# EAGLE library part 74LVC1G175 (library Public)
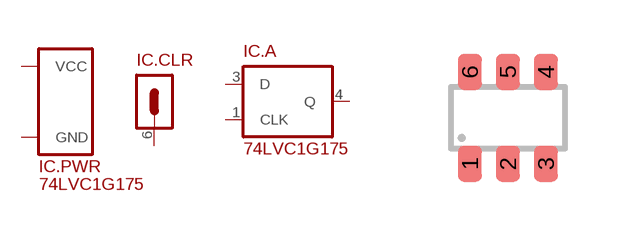
[diagram p175: symbol with the pads of SOT23-6; footprint SOT23-6]

Designator prefix IC; gates .PWR=SUPPLY_VCC/GND .CLR=HEADER_1 .A=D_FLIPFLOP

## 74LVC1G175  [SOT23-6]
1  .A:CLK
2  .PWR:GND
3  .A:D
4  .A:Q
5  .PWR:VCC
6  .CLR:PIN1

## Footprint SOT23-6 (pad centres in mm)
SOT23-6 SOT26 SC59-6 SC74 TSOP-6 MO-178AB SMT6 SM6 Mini6 SOT457
smd 0.6 x 0.9: 1 -0.95,-1.15; 2 0,-1.15; 3 0.95,-1.15; 4 0.95,1.15; 5 0,1.15; 6 -0.95,1.15